# Altium footprint library CONN-TH_5P-P3.81_WJ15EDGRC-3.81-5P.PcbLib: 1 footprints
Each footprint in its own frame and in the unit in brackets; x right, y up, seen from the top. Pads: shape width x height; smd on the part's side, far side on the other; paste and mask are expansions set on the pad; w line width, h text height; cw(c..) or ccw(c..) is an arc to the next point about the centre after c.
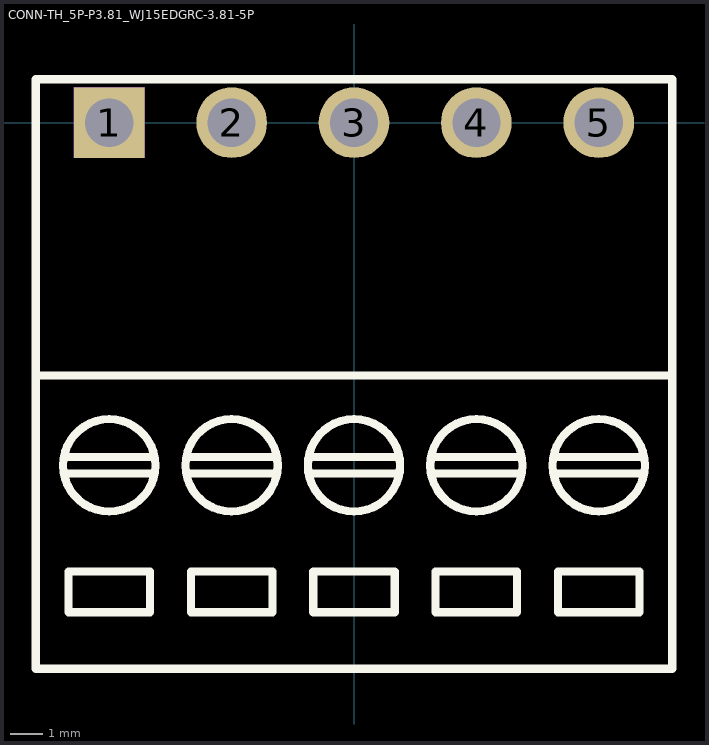
[diagram p0: the footprint, top view; thin cyan lines are the x and y axes]

## CONN-TH_5P-P3.81_WJ15EDGRC-3.81-5P [mm]
pads (5):
  rect 2.2x2.2 hole 1.5: 1(-7.62,0)
  round 2.2 hole 1.5: 2(-3.81,0) 3(0,0) 4(3.81,0) 5(7.62,0)
Top Overlay:
  circle w0.254: c-7.62,-10.668 r1.437
  circle w0.254: c-3.81,-10.668 r1.437
  circle w0.254: c0,-10.668 r1.437
  circle w0.254: c3.81,-10.668 r1.437
  circle w0.254: c7.62,-10.668 r1.437
  lines w0.254: -9.906,-7.88 -9.906,1.27 ; -9.906,1.35 9.906,1.35 9.906,-7.874 ; -8.89,-10.922 -6.35,-10.922 ; -8.89,-10.414 -6.35,-10.414 ; -5.08,-10.922 -2.54,-10.922 ; -5.08,-10.414 -2.54,-10.414 ; -1.27,-10.922 1.27,-10.922 ; -1.27,-10.414 1.27,-10.414 ; 2.54,-10.922 5.08,-10.922 ; 2.54,-10.414 5.08,-10.414 ; 6.35,-10.922 8.89,-10.922 ; 6.35,-10.414 8.89,-10.414 ; 9.906,-7.874 5.842,-7.874 -9.906,-7.874 -9.906,-17 9.906,-17 9.906,-7.874 ; -8.89,-15.24 -8.89,-13.97 -6.35,-13.97 -6.35,-15.24 -8.89,-15.24 ; -5.08,-15.24 -2.54,-15.24 -2.54,-13.97 -5.08,-13.97 -5.08,-15.24 ; -1.27,-15.24 1.27,-15.24 1.27,-13.97 -1.27,-13.97 -1.27,-15.24 ; 2.54,-15.24 5.08,-15.24 5.08,-13.97 2.54,-13.97 2.54,-15.24 ; 6.35,-15.24 8.89,-15.24 8.89,-13.97 6.35,-13.97 6.35,-15.24
Mechanical 5:
  region: -8.72,1.1 -6.52,1.1 -6.52,-1.1 -8.72,-1.1